# Altium schematic symbol library Schematic Components.SchLib: 21 symbols
Pins are listed as number, name and electrical type; pins without a type are passive.

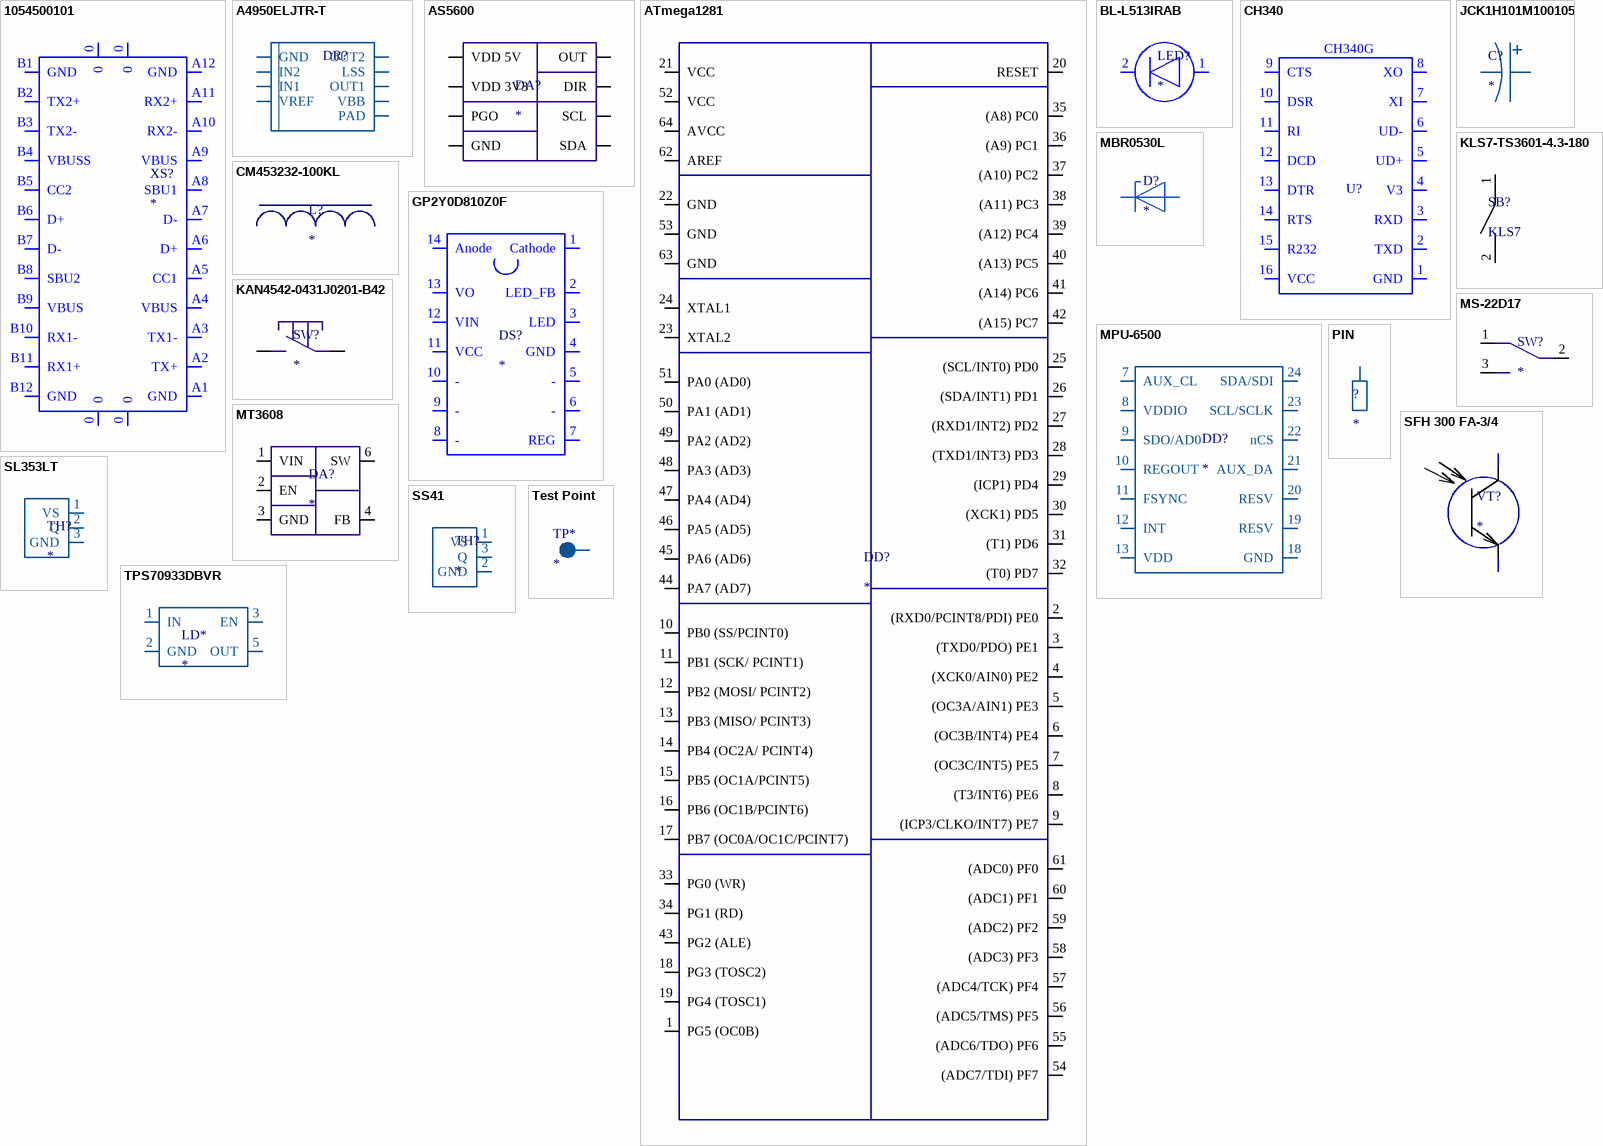
[diagram p0: symbols 1054500101 to Тest Point]

## 1054500101
designator XS?
TPSI
footprint 1054500101
pins: 0, 0, 0, 0, A1 GND, A2 TX+, A3 TX1-, A4 VBUS, A5 CC1, A6 D+, A7 D-, A8 SBU1, A9 VBUS, A10 RX2-, A11 RX2+, A12 GND, B1 GND, B2 TX2+, B3 TX2-, B4 VBUSS, B5 CC2, B6 D+, B7 D-, B8 SBU2, B9 VBUS, B10 RX1-, B11 RX1+, B12 GND

## A4950ELJTR-T
designator DR?
Chip
footprint A4950ELJTR-T
pins: 1 GND, 2 IN2, 3 IN1, 4 VREF, 5 VBB, 6 OUT1, 7 LSS, 8 OUT2, PAD

## AS5600
designator DA?
footprint SO-8 (SOIC, 8-Leads, Body 4,90x3,90mm, Pitch 1,27mm, IPC Medium Density)
pins: 1 VDD 5V, 2 VDD 3V3, 3 OUT, 4 GND, 5 PGO, 6 SDA, 7 SCL, 8 DIR

## ATmega1281
designator DD?
footprint ATmega1281
pins: 1 PG5 (OC0B), 2 (RXD0/PCINT8/PDI) PE0, 3 (TXD0/PDO) PE1, 4 (XCK0/AIN0) PE2, 5 (OC3A/AIN1) PE3, 6 (OC3B/INT4) PE4, 7 (OC3C/INT5) PE5, 8 (T3/INT6) PE6, 9 (ICP3/CLKO/INT7) PE7, 10 PB0 (SS/PCINT0) , 11 PB1 (SCK/ PCINT1), 12 PB2 (MOSI/ PCINT2), 13 PB3 (MISO/ PCINT3), 14 PB4 (OC2A/ PCINT4), 15 PB5 (OC1A/PCINT5), 16 PB6 (OC1B/PCINT6), 17 PB7 (OC0A/OC1C/PCINT7), 18 PG3 (TOSC2), 19 PG4 (TOSC1), 20 RESET, 21 VCC, 22 GND, 23 XTAL2, 24 XTAL1, 25 (SCL/INT0) PD0, 26 (SDA/INT1) PD1, 27 (RXD1/INT2) PD2, 28 (TXD1/INT3) PD3, 29 (ICP1) PD4, 30 (XCK1) PD5, 31 (T1) PD6, 32 (T0) PD7, 33 PG0 (WR), 34 PG1 (RD), 35 (A8) PC0, 36 (A9) PC1, 37 (A10) PC2, 38 (A11) PC3, 39 (A12) PC4, 40 (A13) PC5, 41 (A14) PC6, 42 (A15) PC7, 43 PG2 (ALE), 44 PA7 (AD7), 45 PA6 (AD6), 46 PA5 (AD5), 47 PA4 (AD4), 48 PA3 (AD3), 49 PA2 (AD2), 50 PA1 (AD1), 51 PA0 (AD0), 52 VCC, 53 GND, 54 (ADC7/TDI) PF7, 55 (ADC6/TDO) PF6, 56 (ADC5/TMS) PF5, 57 (ADC4/TCK) PF4, 58 (ADC3) PF3, 59 (ADC2) PF2, 60 (ADC1) PF1, 61 (ADC0) PF0, 62 AREF, 63 GND, 64 AVCC

## BL-L513IRAB
designator LED?
Diod
footprint BL-L513IRAB
pins: 1, 2

## CH340
designator U?  (value not drawn)
Chip
footprint CH340G
pins: 1 GND, 2 TXD, 3 RXD, 4 V3, 5 UD+, 6 UD-, 7 XI, 8 XO, 9 CTS, 10 DSR, 11 RI, 12 DCD, 13 DTR, 14 RTS, 15 R232, 16 VCC
text: CH340G

## CM453232-100KL
designator L?
footprint CM453232-100KL
pins: 1, 2

## GP2Y0D810Z0F
designator DS?
Sensor
footprint GP2Y0D810Z0F
pins: 1 Cathode, 2 LED_FB, 3 LED, 4 GND, 5 -, 6 -, 7 REG, 8 -, 9 -, 10 -, 11 VCC, 12 VIN, 13 VO, 14 Anode

## JCK1H101M100105
designator C?
Capacitor
footprint PCBComponent_1
pins: 1, 2

## KAN4542-0431J0201-B42
designator SW?
Button
footprint KAN4542-0431J0201-B42
pins: 1, 2

## KLS7-TS3601-4.3-180
designator SB?, comment KLS7
Button
footprint KLS7-TS3601-4.3-180
pins: 1, 2

## MBR0530L
designator D?
footprint SOD-123F (SODFL, 2-Leads, Body 1.60x3.50mm, IPC Medium Density)
pins: 1, 2

## MPU-6500
designator DD?
Chip
footprint MPU-6500
pins: 7 AUX_CL, 8 VDDIO, 9 SDO/AD0, 10 REGOUT, 11 FSYNC, 12 INT, 13 VDD, 18 GND, 19 RESV, 20 RESV, 21 AUX_DA, 22 nCS, 23 SCL/SCLK, 24 SDA/SDI

## MS-22D17
designator SW?
footprint MS-22D17
pins: 1, 2, 3

## MT3608
designator DA?
footprint MT3608
pins: 1 VIN, 2 EN, 3 GND, 4 FB, 6 SW

## PIN
designator ?
footprint PIN
pins: 0

## SFH 300 FA-3/4
designator VT?
Transistor
footprint SFH 300 FA-3/4
pins: 1 C, 2 E

## SL353LT
designator TH?
Transistor
footprint SL353LT
pins: 1 VS, 2 Q, 3 GND

## SS41
designator TH?
footprint SS41
pins: 1 VS, 2 GND, 3 Q

## TPS70933DBVR
designator LD*
footprint SOT-23-5 (SOT23, 5-Leads, Body 2,90x2,80mm, Pitch 0,95mm, IPC Medium Density)
pins: 1 IN, 2 GND, 3 EN, 5 OUT

## Тest Point
designator TP*
footprint Test Point
pins: 1